# EAGLE library part 6EDL04N02PR (library useful-infineon)
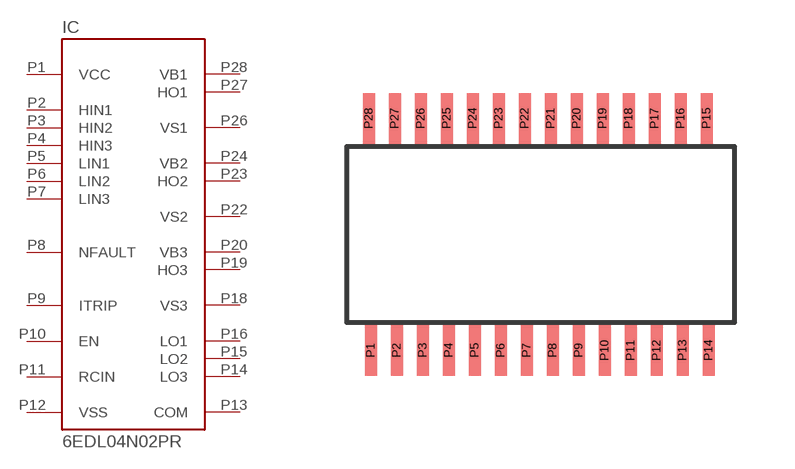
[diagram p1: symbol with the pads of PG-TSSOP-28; footprint PG-TSSOP-28]

Designator prefix IC

## 6EDL04N02PR  [PG-TSSOP-28]
P1  VCC
P2  HIN1
P3  HIN2
P4  HIN3
P5  LIN1
P6  LIN2
P7  LIN3
P8  NFAULT
P9  ITRIP
P10  EN
P11  RCIN
P12  VSS
P13  COM
P14  LO3
P15  LO2
P16  LO1
P18  VS3
P19  HO3
P20  VB3
P22  VS2
P23  HO2
P24  VB2
P26  VS1
P27  HO1
P28  VB1

## Footprint PG-TSSOP-28 (pad centres in mm)
smd 0.3 x 1.27: P1 -4.3,-2.9; P2 -3.65,-2.9; P3 -3,-2.9; P4 -2.35,-2.9; P5 -1.7,-2.9; P6 -1.05,-2.9; P7 -0.4,-2.9; P8 0.25,-2.9; P9 0.9,-2.9; P10 1.55,-2.9; P11 2.2,-2.9; P12 2.85,-2.9; P13 3.5,-2.9; P14 4.15,-2.9; P15 4.1,2.9; P16 3.45,2.9; P17 2.8,2.9; P18 2.15,2.9; P19 1.5,2.9; P20 0.85,2.9; P21 0.2,2.9; P22 -0.45,2.9; P23 -1.1,2.9; P24 -1.75,2.9; P25 -2.4,2.9; P26 -3.05,2.9; P27 -3.7,2.9; P28 -4.35,2.9